# Altium footprint library RESC6531X85N.PcbLib: 1 footprints
Each footprint in its own frame and in the unit in brackets; x right, y up, seen from the top. Pads: shape width x height; smd on the part's side, far side on the other; paste and mask are expansions set on the pad; w line width, h text height; cw(c..) or ccw(c..) is an arc to the next point about the centre after c.
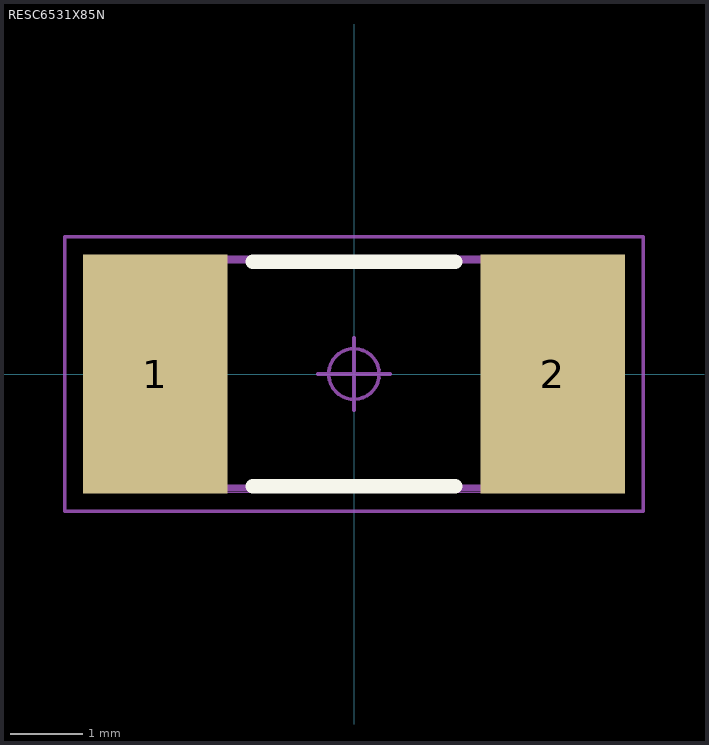
[diagram p0: the footprint, top view; thin cyan lines are the x and y axes]

## RESC6531X85N [mm] "Resistor, Chip; 6.5mm L X 3.15mm W X 0.85mm H, IPC Medium Density"
height 0.85
pads (2):
  rect 2x3.3 smd: 1(-2.75,0) 2(2.75,0)
Top Overlay:
  lines w0.2: -1.4,-1.55 1.4,-1.55 ; -1.4,1.55 1.4,1.55
Mechanical 8:
  lines w0.001: -3.404,-1.638 3.404,-1.638 3.404,1.638 -3.404,1.638 -3.404,-1.638
Mechanical 14:
  lines w0.1: -3.251,-1.575 3.251,-1.575 3.251,1.575 -3.251,1.575 -3.251,-1.575
Mechanical 15:
  circle w0.05: c0,0 r0.35
  lines w0.05: -0.5,0 0.5,0 ; 0,-0.5 0,0.5 ; -4,-1.9 4,-1.9 4,1.9 -4,1.9 -4,-1.9
3D body "RESC6531X85N.stp": height 0.85, standoff 0, extent -3.25,-1.575 3.25,1.575